# EAGLE library part TSW-S-44 (library con-samtec-tsw)
HEADER
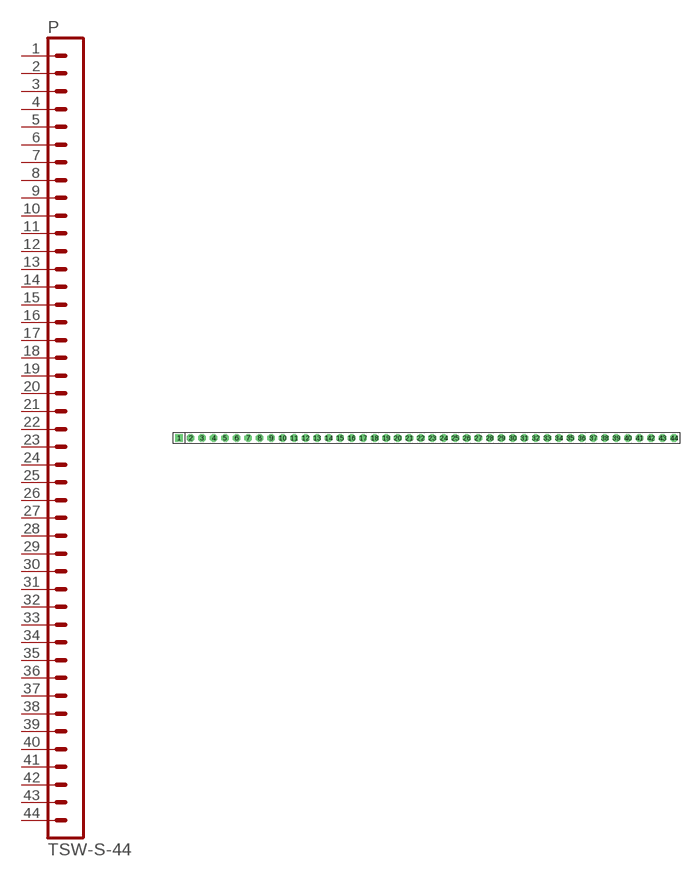
[diagram p38: symbol with the pads of TSW-S-44; footprint TSW-S-44]

Designator prefix P

## TSW-S-44  [TSW-S-44]
1  1  pas
2  2  pas
3  3  pas
4  4  pas
5  5  pas
6  6  pas
7  7  pas
8  8  pas
9  9  pas
10  10  pas
11  11  pas
12  12  pas
13  13  pas
14  14  pas
15  15  pas
16  16  pas
17  17  pas
18  18  pas
19  19  pas
20  20  pas
21  21  pas
22  22  pas
23  23  pas
24  24  pas
25  25  pas
26  26  pas
27  27  pas
28  28  pas
29  29  pas
30  30  pas
31  31  pas
32  32  pas
33  33  pas
34  34  pas
35  35  pas
36  36  pas
37  37  pas
38  38  pas
39  39  pas
40  40  pas
41  41  pas
42  42  pas
43  43  pas
44  44  pas

## Footprint TSW-S-44 (pad centres in mm)
HEADER
drill 0.914 pad 1.676 square: 1 -54.61,0
drill 0.914 pad 1.676 octagon: 2 -52.07,0; 3 -49.53,0; 4 -46.99,0; 5 -44.45,0; 6 -41.91,0; 7 -39.37,0; 8 -36.83,0; 9 -34.29,0; 10 -31.75,0; 11 -29.21,0; 12 -26.67,0; 13 -24.13,0; 14 -21.59,0; 15 -19.05,0; 16 -16.51,0; 17 -13.97,0; 18 -11.43,0; 19 -8.89,0; 20 -6.35,0; 21 -3.81,0; 22 -1.27,0; 23 1.27,0; 24 3.81,0; 25 6.35,0; 26 8.89,0; 27 11.43,0; 28 13.97,0; 29 16.51,0; 30 19.05,0; 31 21.59,0; 32 24.13,0; 33 26.67,0; 34 29.21,0; 35 31.75,0; 36 34.29,0; 37 36.83,0; 38 39.37,0; 39 41.91,0; 40 44.45,0; 41 46.99,0; 42 49.53,0; 43 52.07,0; 44 54.61,0